# Altium schematic symbol library SCH - OPAMP - TI THS4551 RUN.SCHLIB: 1 symbol
Pins are listed as number, name and electrical type; pins without a type are passive.

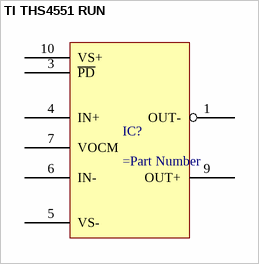
[diagram p0: symbol TI THS4551 RUN]

## TI THS4551 RUN
designator IC?
pins: 1 OUT-, 3 ~{PD}, 4 IN+, 5 VS-, 6 IN-, 7 VOCM, 9 OUT+, 10 VS+